# EAGLE library part PSOC4_4100S_32QFN (library SparkFun-IC-Microcontroller)
PSOC4100 CY8C4146LQI-S422 PSOC4100S 64k FLASH, 8K RAM, 32QFN SparkFun Products SparkFun Serial Controlled Motor Driver <https://www.sparkfun.com/products/13911>
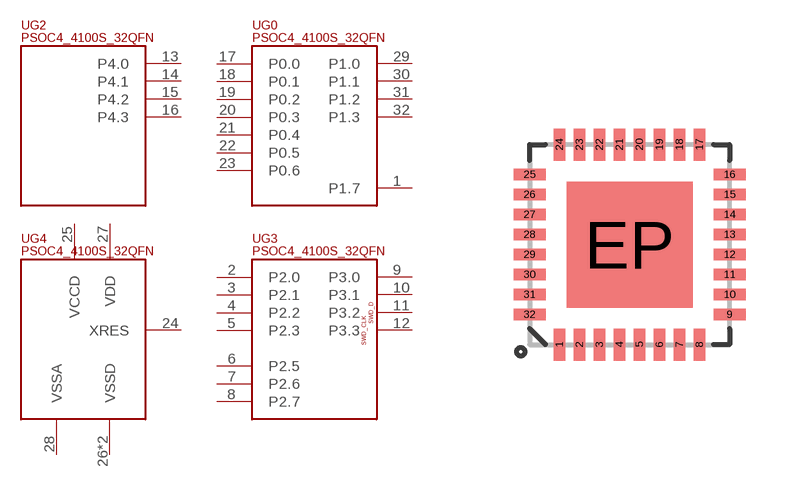
[diagram p6: symbol with the pads of QFN-32; footprint QFN-32]

Designator prefix U; gates G2=PSOC_4100S_32QFN_PORT_4 G0=PSOC_4100S_32QFN_PORTS_0_AND_1 G3=PSOC_4100S_32QFN_PORTS_2_AND_3 G4=PSOC_4100S_QFN32_POWER

## PSOC4_4100S_32QFN (PROD_ID: IC-13286; VALUE: CY8C4146LQI-S422)  [QFN-32]
1  G0:P1.7
2  G3:P2.0
3  G3:P2.1
4  G3:P2.2
5  G3:P2.3
6  G3:P2.5
7  G3:P2.6
8  G3:P2.7
9  G3:P3.0
10  G3:P3.1
11  G3:P3.2
12  G3:P3.3
13  G2:P4.0
14  G2:P4.1
15  G2:P4.2
16  G2:P4.3
17  G0:P0.0
18  G0:P0.1
19  G0:P0.2
20  G0:P0.3
21  G0:P0.4
22  G0:P0.5
23  G0:P0.6
24  G4:XRES
25  G4:VCCD
26  G4:VSSD
27  G4:VDD
28  G4:VSSA
29  G0:P1.0
30  G0:P1.1
31  G0:P1.2
32  G0:P1.3
EP  G4:VSSD

## Footprint QFN-32 (pad centres in mm)
QFN 32-Pin package w/ Thermal Pad ***Unproven*** Applicable Parts: TLC5940
smd 0.285 x 0.8: 1 -1.75,-2.5; 2 -1.25,-2.5; 3 -0.75,-2.5; 4 -0.25,-2.5; 5 0.25,-2.5; 6 0.75,-2.5; 7 1.25,-2.5; 8 1.75,-2.5; 17 1.75,2.5; 18 1.25,2.5; 19 0.75,2.5; 20 0.25,2.5; 21 -0.25,2.5; 22 -0.75,2.5; 23 -1.25,2.5; 24 -1.75,2.5
smd 0.8 x 0.285: 9 2.5,-1.75; 10 2.5,-1.25; 11 2.5,-0.75; 12 2.5,-0.25; 13 2.5,0.25; 14 2.5,0.75; 15 2.5,1.25; 16 2.5,1.75; 25 -2.5,1.75; 26 -2.5,1.25; 27 -2.5,0.75; 28 -2.5,0.25; 29 -2.5,-0.25; 30 -2.5,-0.75; 31 -2.5,-1.25; 32 -2.5,-1.75
smd 3.15 x 3.15: EP 0,0